# EAGLE library part USB-B (library dooba)
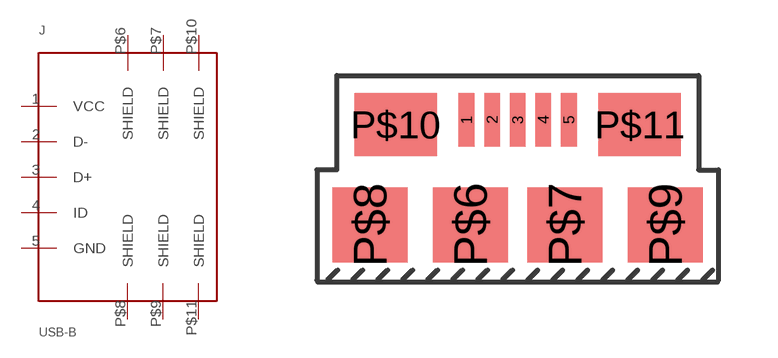
[diagram p18: symbol with the pads of AMPHENOL-USB-MICRO-B; footprint AMPHENOL-USB-MICRO-B]

Designator prefix J

## USB-BAMPHENOL-MICRO  [AMPHENOL-USB-MICRO-B]
1  VCC
2  D-
3  D+
4  ID
5  GND
P$6  SHIELD
P$7  SHIELD
P$8  SHIELD
P$9  SHIELD
P$10  SHIELD
P$11  SHIELD

## Footprint AMPHENOL-USB-MICRO-B (pad centres in mm)
smd 0.4 x 1.35: 1 -1.3,2.675; 2 -0.65,2.675; 3 0,2.675; 4 0.65,2.675; 5 1.3,2.675
smd 1.9 x 1.9: P$6 -1.2,0; P$7 1.2,0; P$8 -3.75,0; P$9 3.75,0
smd 2.1 x 1.6: P$10 -3.1,2.55; P$11 3.1,2.55